# Altium schematic symbol library Kame_FMU.SCHLIB: 35 symbols
Pins are listed as number, name and electrical type; pins without a type are passive.

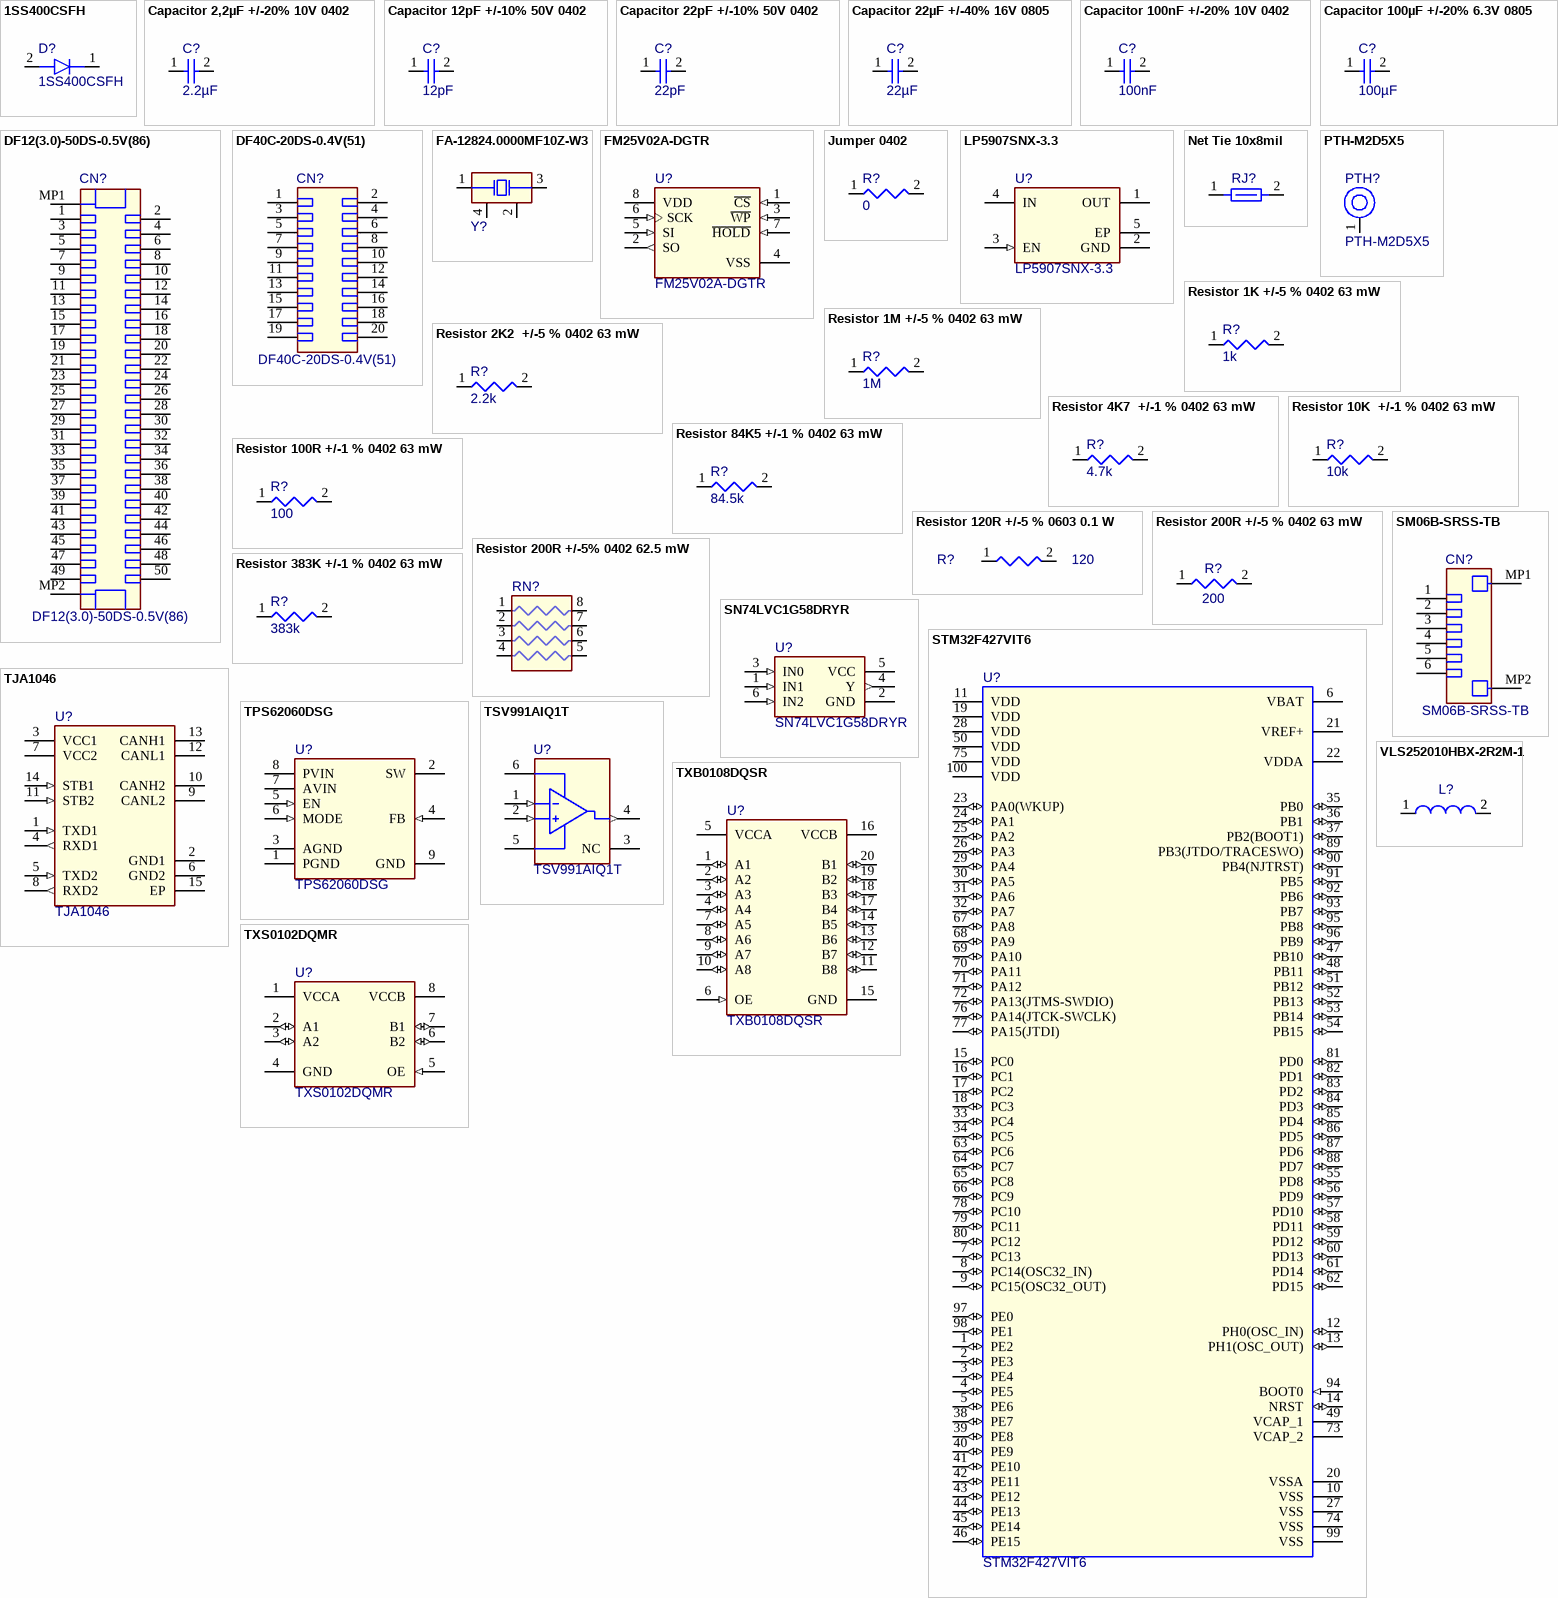
[diagram p0: symbols 1SS400CSFH to VLS252010HBX-2R2M-1]

## 1SS400CSFH
designator D?
Switching Diode (High Speed Switching), 80 V, 100 mA, 2-Pin SOD-923, RoHS, Tape and Reel; Manufacturer: Rohm; Manufacturer Part Number: 1SS400CSFHT2RA; Mounting Technology: SMT; Pins: 2; Component Type: Diodes
footprint ROHM-VMN2-2_V (VMN2, 2-Leads, Body 0.9x0.6mm, Pitch 0.95mm)
pins: 1 K, 2 A

## Capacitor 2,2µF +/-20% 10V 0402
designator C?  value 2.2µF  (hidden comment: Capacitor 2,2µF +/-20% 10V 0402)
Chip Capacitor, 2,2µF +/-20%, 10V, 0402, Thickness 0.6 mm; Manufacturer: Murata; Manufacturer Part Number: GRT155R61E225KE13D; Tolerance: 10%; Case/Package: 0603; Voltage Rating: 10V; Mounting Technology: SMT; Min Operating Temperature: -55°C; Max Operating Temperature: 85°C; Pins: 2; Component Type: Capacitors
footprint CAPC0402(1005)60_L (Chip Capacitor, Body 1.0x0.5mm, Height 0.6mm, IPC High Density)
pins: 1, 2

## Capacitor 12pF +/-10% 50V 0402
designator C?  value 12pF  (hidden comment: Capacitor 12pF +/-10% 50V 0402)
Chip Capacitor, 12pF +/-10%, 50V, 0402, Thickness 0.33 mm; Manufacturer: Murata; Manufacturer Part Number: GCM1555C1H120JA16D; Tolerance: 20%; Case/Package: 0603; Mounting Technology: SMT; Pins: 2; Voltage Rating: 50V; Max Operating Temperature: 85°C; Min Operating Temperature: -55°C; Component Type: Capacitors
footprint CAPC0402(1005)33_L (Chip Capacitor, Body 1.0x0.5mm, Height 0.33mm, IPC High Density)
pins: 1, 2

## Capacitor 22pF +/-10% 50V 0402
designator C?  value 22pF  (hidden comment: Capacitor 22pF +/-10% 50V 0402)
Chip Capacitor, 22pF +/-10%, 50V, 0402, Thickness 0.6 mm; Manufacturer: Kyocera AVX; Manufacturer Part Number: 04025A220JAT4A; Tolerance: 10%; Mounting Technology: SMT; Pins: 2; Voltage Rating: 50V; Case/Package: 0402; Max Operating Temperature: 85°C; Min Operating Temperature: -55°C; Component Type: Capacitors
footprint CAPC0402(1005)60_L (Chip Capacitor, Body 1.0x0.5mm, Height 0.6mm, IPC High Density)
pins: 1, 2

## Capacitor 22µF +/-40% 16V 0805
designator C?  value 22µF  (hidden comment: Capacitor 22µF +/-40% 16V 0805)
Chip Capacitor, 22µF +/-40%, 16V, 0805, Thickness 1.45 mm; Manufacturer: Murata; Manufacturer Part Number: GRM21BR61C226ME44L; Tolerance: 5%; Voltage Rating: 16V; Case/Package: 0402; Pins: 2; Mounting Technology: SMT; Max Operating Temperature: 85°C; Min Operating Temperature: -55°C; Component Type: Capacitors
footprint CAPC0805(2012)145_L (Chip Capacitor, Body 2.0x1.2mm, Height 1.45mm, IPC High Density)
pins: 1, 2

## Capacitor 100nF +/-20% 10V 0402
designator C?  value 100nF  (hidden comment: Capacitor 100nF +/-20% 10V 0402)
Chip Capacitor, 100nF +/-20%, 10V, 0402, Thickness 0.6 mm; Manufacturer: KEMET; Manufacturer Part Number: C0402C104K8RAC; Tolerance: 20%; Case/Package: 0402; Min Operating Temperature: -55°C; Mounting Technology: SMT; Max Operating Temperature: 85°C; Pins: 2; Voltage Rating: 10V; Component Type: Capacitors
footprint CAPC0402(1005)60_L (Chip Capacitor, Body 1.0x0.5mm, Height 0.6mm, IPC High Density)
pins: 1, 2

## Capacitor 100µF +/-20% 6.3V 0805
designator C?  value 100µF  (hidden comment: Capacitor 100µF +/-20% 6.3V 0805)
Chip Capacitor, 100µF +/-20%, 6.3V, 0805, Thickness 1.45 mm; Manufacturer: Murata; Manufacturer Part Number: GRM21BR60G107ME15L; Tolerance: 10%; Max Operating Temperature: 85°C; Mounting Technology: SMT; Case/Package: 0402; Voltage Rating: 6.3V; Min Operating Temperature: -55°C; Pins: 2; Component Type: Capacitors
footprint CAPC0805(2012)145_L (Chip Capacitor, Body 2.0x1.2mm, Height 1.45mm, IPC High Density)
pins: 1, 2

## DF12(3.0)-50DS-0.5V(86)
designator CN?
Receptacle Connector, 50 V, 0.3 A, -45 to 125 degC, RoHS, Tape and Reel; Manufacturer: Hirose; Pins: 52; System: Connector; Manufacturer Part Number: DF12(3.0)-50DS-0.5V(86); Component Type: Connectors
footprint HIRO-DF12(3.0)-50DS-0.5V_V (SMD, 50-Leads, Body 14.6x3.6mm, Pitch 0.5mm)
pins: 1, 2, 3, 4, 5, 6, 7, 8, 9, 10, 11, 12, 13, 14, 15, 16, 17, 18, 19, 20, 21, 22, 23, 24, 25, 26, 27, 28, 29, 30, 31, 32, 33, 34, 35, 36, 37, 38, 39, 40, 41, 42, 43, 44, 45, 46, 47, 48, 49, 50, MP1, MP2

## DF40C-20DS-0.4V(51)
designator CN?
Receptacle Connector, 30 V, 0.3 A, -35 to 85 degC, RoHS, Tape and Reel; Manufacturer: Hirose; Connector Type: Receptacle,CenterStripContacts; Pins: 20; System: Connector; Manufacturer Part Number: DF40C-20DS-0.4V(51); Component Type: Connectors
footprint HIRO-DF40C-20DS-0.4V(51)_V (CONN, 20-Lead, Body 6.6x2.88mm, Pitch 0.4mm)
pins: 1, 2, 3, 4, 5, 6, 7, 8, 9, 10, 11, 12, 13, 14, 15, 16, 17, 18, 19, 20

## FA-12824.0000MF10Z-W3
designator Y?  (value not drawn)
Crystal, 24 MHz, +/- 10 ppm, -20 to 75 degC, 4-Pin SMD, RoHS, Tape and Reel; Manufacturer: Epson; ESR: 80; Load Capacitance: 12pF; Frequency: 24MHz; Mounting Technology: SMT; Pins: 4; RoHS Compliant: Yes; Max Operating Temperature: 75°C; Case/Package: SMD/SMT; Min Operating Temperature: -20°C; Manufacturer Part Number: FA-12824.0000MF10Z-W3; Component Type: Crystals & Oscillators
footprint EPSON-FA-128_V (SMD, 4-Leads, Body 2x1.6mm, Pitch 1.45mm)
pins: 1 X1, 2 NC (power), 3 X2, 4 NC (power)

## FM25V02A-DGTR
designator U?
REEL / F-RAM Memory Serial; Manufacturer: Cypress; Memory Format: FRAM,RAM; Speed: 40MHz; Min Operating Temperature: -40°C; Pins: 8; Max Operating Temperature: 85°C; Case/Package: DFN; Manufacturer Part Number: FM25V02A-DG; Component Type: Memory
footprint SON95P400X75_HS-9N (SON, 8-Leads, Body 4,50x4,00mm, Pitch 0,95mm, Thermal Pad 2,61x2,88mm, IPC Medium Density)
pins: 1 ~{CS} (in) "Chip Select. This active LOW input activates the device. When HIGH, the device enters the  low-power standby mode, ignores other inputs, and the output is tristated. When LOW, the device  internally activates the SCK signal. A falling edge on C\S\ must occur before every opcode.", 2 SO (out) "Serial Output. This is the data output pin. It is driven during a read and remains tristated at all other  times including when H\O\L\D\ is LOW. Data transitions are driven on the falling edge of the serial clock.", 3 ~{WP} (in) "Write Protect. This active LOW pin prevents write operation to the Status Register when WPEN is  set to ‘1’. This is critical because other write protection features are controlled through the Status  Register.", 4 VSS (power) "Ground for the device. Must be connected to the ground of the system.", 5 SI (in) "Serial Input. All data is input to the device on this pin. The pin is sampled on the rising edge of SCK  and is ignored at other times. It should always be driven to a valid logic level to meet IDD specifications.", 6 SCK (in) "Serial Clock. All I/O activity is synchronized to the serial clock. Inputs are latched on the rising edge  and outputs occur on the falling edge. Because the device is synchronous, the clock frequency may  be any value between 0 and 40 MHz and may be interrupted at any time.", 7 ~{HOLD} (in) "The H\O\L\D\ pin is used when the host CPU must interrupt a memory operation for another  task. When H\O\L\D\ is LOW, the current operation is suspended. The device ignores any transition  on SCK or C\S\. All transitions on H\O\L\D\ must occur while SCK is LOW. This pin has a weak internal  pull-up", 8 VDD (power) "Power supply input to the device."

## Jumper 0402
designator R?  value 0  (hidden comment: Jumper 0402)
Manufacturer: Yageo; Manufacturer Part Number: RC0402JR-070RL; Case/Package: 0402; Max Operating Temperature: 155°C; Min Operating Temperature: -55°C; Pins: 2; Component Type: Resistors
footprint RESC0402(1005)_L (Chip Resistor, Body 1.0x0.5mm, IPC High Density)
pins: 1, 2
1 alternate drawing of the same symbol

## LP5907SNX-3.3
designator U?
Ultra-Low-Noise, Low-IQ LDO, 3.3 V, 0.25 A, -40 to 125 degC, 4-Pin X2SON, RoHS, Tape and Reel; Manufacturer: Texas Instruments; Manufacturer Part Number: LP5907SNX-3.3/NOPB; Output Voltage: 3.3V; Min Operating Temperature: -40°C; Pins: 5; Max Operating Temperature: 125°C; Component Type: Power Supply
footprint TI-DQN4-480X480TP_V (SON, 4-Leads, Body 1x1mm, Pitch 0.65mm, Thermal Pad 0.5x0.5mm)
pins: 1 OUT (power) "Output voltage. A 1-uF Low ESR capacitor should be connected to this pin. Connect this output to the load circuit. An internal 280 Ohm discharge resistor prevents a charge remaining on VOUT when VEN is low.", 2 GND (power) "Common ground", 3 EN (in) "Enable input", 4 IN (power) "Input voltage supply. A 1-µF capacitor should be connected at this input.", 5 EP (power) "Thermal pad for X2SON package, connect to GND or Floating"

## Net Tie 10x8mil
designator RJ?  (value not drawn)  (net tie, no BOM)
Pins: 2; Max Operating Temperature: 155°C; Min Operating Temperature: -55°C; Component Type: Resistors
footprint New footprint 1
pins: 1, 2

## PTH-M2D5X5
designator PTH?
M2 PTH (2.5mm), 5mm pad; Pins: 1; Component Type: Mechanical
footprint PTH-M2D5X5
pins: 1 H1

## Resistor 1K +/-5 % 0402 63 mW
designator R?  value 1k  (hidden comment: Resistor 1K +/-5 % 0402 63 mW)
Chip Resistor, 1 kOhms, +/-5 %, 63 mW, -55 to 155 degC, 0402; Manufacturer: Yageo; Manufacturer Part Number: RC0402JR-071KL; Tolerance: 5%; Power: 63mW; Case/Package: 0402; Max Operating Temperature: 155°C; Min Operating Temperature: -55°C; Pins: 2; Component Type: Resistors
footprint RESC0402(1005)_L (Chip Resistor, Body 1.0x0.5mm, IPC High Density)
pins: 1, 2
1 alternate drawing of the same symbol

## Resistor 1M +/-5 % 0402 63 mW
designator R?  value 1M  (hidden comment: Resistor 1M +/-5 % 0402 63 mW)
Chip Resistor, 1 MOhms, +/-5 %, 63 mW, -55 to 155 degC, 0402; Manufacturer: Yageo; Manufacturer Part Number: RC0402JR-071ML; Tolerance: 5%; Power: 63mW; Case/Package: 0402; Max Operating Temperature: 155°C; Min Operating Temperature: -55°C; Pins: 2; Component Type: Resistors
footprint RESC0402(1005)_L (Chip Resistor, Body 1.0x0.5mm, IPC High Density)
pins: 1, 2
1 alternate drawing of the same symbol

## Resistor 2K2  +/-5 % 0402 63 mW
designator R?  value 2.2k  (hidden comment: Resistor 2K2  +/-5 % 0402 63 mW)
Chip Resistor, 2,2 kOhms, +/-5 %, 63 mW, -55 to 155 degC, 0402; Manufacturer: Vishay Dale; Manufacturer Part Number: CRCW04022K20JNTE; Power: 63mW; Tolerance: 5%; Case/Package: 0402; Max Operating Temperature: 155°C; Min Operating Temperature: -55°C; Pins: 2; Component Type: Resistors
footprint RESC0402(1005)_L (Chip Resistor, Body 1.0x0.5mm, IPC High Density)
pins: 1, 2
1 alternate drawing of the same symbol

## Resistor 4K7  +/-1 % 0402 63 mW
designator R?  value 4.7k  (hidden comment: Resistor 4K7  +/-1 % 0402 63 mW)
Chip Resistor, 4,7 kOhms, +/-1 %, 63 mW, -55 to 155 degC, 0402; Manufacturer: Panasonic; Manufacturer Part Number: ERJ-2RKF4701X; Tolerance: 1%; Power: 63mW; Case/Package: 0402; Max Operating Temperature: 155°C; Min Operating Temperature: -55°C; Pins: 2; Component Type: Resistors
footprint RESC0402(1005)_L (Chip Resistor, Body 1.0x0.5mm, IPC High Density)
pins: 1, 2
1 alternate drawing of the same symbol

## Resistor 10K  +/-1 % 0402 63 mW
designator R?  value 10k  (hidden comment: Resistor 10K  +/-1 % 0402 63 mW)
Chip Resistor, 10 kOhms, +/-1 %, 63 mW, -55 to 125 degC, 0402; Manufacturer: Vishay Dale; Manufacturer Part Number: CRCW040210K0FKTD; Tolerance: 1%; Power: 63mW; Case/Package: 0402; Max Operating Temperature: 155°C; Min Operating Temperature: -55°C; Pins: 2; Component Type: Resistors
footprint RESC0402(1005)_L (Chip Resistor, Body 1.0x0.5mm, IPC High Density)
pins: 1, 2
1 alternate drawing of the same symbol

## Resistor 84K5 +/-1 % 0402 63 mW
designator R?  value 84.5k  (hidden comment: Resistor 84K5 +/-1 % 0402 63 mW)
Chip Resistor, 84,5 kOhms, +/-1 %, 63 mW, -55 to 155 degC, 0402; Manufacturer: Vishay Dale; Manufacturer Part Number: CRCW040284K5FKTD; Tolerance: 1%; Power: 63mW; Case/Package: 0402; Max Operating Temperature: 155°C; Min Operating Temperature: -55°C; Pins: 2; Component Type: Resistors
footprint RESC0402(1005)_L (Chip Resistor, Body 1.0x0.5mm, IPC High Density)
pins: 1, 2
1 alternate drawing of the same symbol

## Resistor 100R +/-1 % 0402 63 mW
designator R?  value 100  (hidden comment: Resistor 100R +/-1 % 0402 63 mW)
Chip Resistor, 100 Ohms, +/-1 %, 63 mW, -55 to 155 degC, 0402; Manufacturer: Vishay Dale; Manufacturer Part Number: CRCW0402100RFKED; Tolerance: 1%; Power: 63mW; Case/Package: 0402; Max Operating Temperature: 155°C; Min Operating Temperature: -55°C; Pins: 2; Component Type: Resistors
footprint RESC0402(1005)_L (Chip Resistor, Body 1.0x0.5mm, IPC High Density)
pins: 1, 2
1 alternate drawing of the same symbol

## Resistor 120R +/-5 % 0603 0.1 W
designator R?  value 120  (hidden comment: Resistor 120R +/-5 % 0603 0.1 W)
Chip Resistor, 120 Ohms, +/-5 %, 0.1 W, -55 to 155 degC, 0603; Manufacturer: Vishay Dale; Manufacturer Part Number: CRCW0603120RJNTA; Tolerance: 5%; Power: 100mW; Case/Package: 0603; Max Operating Temperature: 155°C; Min Operating Temperature: -55°C; Pins: 2; Component Type: Resistors
footprint RESC0603(1608)_L (Chip Resistor, Body 1.6x0.8mm, IPC High Density)
pins: 1, 2
1 alternate drawing of the same symbol

## Resistor 200R +/-5 % 0402 63 mW
designator R?  value 200  (hidden comment: Resistor 200R +/-5 % 0402 63 mW)
Chip Resistor, 200 Ohms, +/-5 %, 63 mW, -55 to 155 degC, 0402; Manufacturer: Yageo; Manufacturer Part Number: RC0402JR-07200RL; Power: 63mW; Tolerance: 5%; Case/Package: 0402; Max Operating Temperature: 155°C; Min Operating Temperature: -55°C; Pins: 2; Component Type: Resistors
footprint RESC0402(1005)_L (Chip Resistor, Body 1.0x0.5mm, IPC High Density)
pins: 1, 2
1 alternate drawing of the same symbol

## Resistor 200R +/-5% 0402 62.5 mW
designator RN?  (value not drawn)
Res Thick Film Array 200 Ohm 5% 200ppm/C ISOL Molded 8-Pin 0804(4 X 0402) Convex SMD Punched Carrier T/R; Manufacturer: Panasonic; Manufacturer Part Number: EXB-28V201JX; Value: 200; Power: 62.5mW; Case/Package: 0402; Min Operating Temperature: -55°C; Tolerance: 5%; Max Operating Temperature: 125°C; Pins: 8; Component Type: Resistors
footprint Panasonic_EXB28 (Resistor network, 0402x4, convex terminal)
pins: 1, 2 1, 3 1, 4 1, 5 2, 6 2, 7 2, 8 2

## Resistor 383K +/-1 % 0402 63 mW
designator R?  value 383k  (hidden comment: Resistor 383K +/-1 % 0402 63 mW)
Chip Resistor, 383 kOhms, +/-1 %, 63 mW, -55 to 155 degC, 0402; Manufacturer: Vishay; Manufacturer Part Number: CRCW0402383KFKED; Tolerance: 1%; Power: 63mW; Case/Package: 0402; Max Operating Temperature: 155°C; Min Operating Temperature: -55°C; Pins: 2; Component Type: Resistors
footprint RESC0402(1005)_L (Chip Resistor, Body 1.0x0.5mm, IPC High Density)
pins: 1, 2
1 alternate drawing of the same symbol

## SM06B-SRSS-TB
designator CN?
Male Header, Pitch 1 mm, 1 x 6 Position, Height 2.95 mm, -25 to 85 degC, RoHS, Tape and Reel; Manufacturer: JST; Manufacturer Part Number: SM06B-SRSS-TB(LF)(SN); Mounting Technology: SurfaceMount; Pins: 8; Case/Package: Male Header, Pitch 1 mm, 1 X 6 Position, Height 2.9 mm; Component Type: Connectors
footprint JST-SM06B-SRSS-TB_V (SMD, 6-Leads, Body 8x4.25mm, Pitch 1mm)
pins: 1, 2, 3, 4, 5, 6, MP1, MP2

## SN74LVC1G58DRYR
designator U?
CONFIGURABLE MULTIPLE-FUNCTION GATE, DRY0006A, LARGE T&R; Manufacturer: Texas Instruments; Pins: 6; Manufacturer Part Number: SN74LVC1G58DRYR; Component Type: Integrated Circuits
footprint DRY0006A_V (SON, 6-Leads, Body 1.45x1mm, Pitch 0.5mm)
pins: 1 IN1 (in), 2 GND (power), 3 IN0 (in), 4 Y (out), 5 VCC (power), 6 IN2 (in)

## STM32F427VIT6
designator U?
ARM Cortex-M4 32-bit MCU+FPU, 2048 KB Flash, 256 KB Internal RAM, 82 I/Os, 100-Pin LQFP, -40 to 85 degC, Tape and Reel; Min Supply Voltage: 1.7V; RAM Size: 256; ComponentLink2URL: http://www.st.com/st-web-ui/static/active/en/resource/technical/document/datasheet/DM00071990.pdf; ComponentLink2Description: Datasheet; ComponentLink1Description: Manufacturer URL; Pins: 100; Mounting Technology: Surface Mount; ComponentLink1URL: http://www.st.com/; Component Type: Processors
footprint STM-LQFP100
pins: 1 PE2 (io) "PE2/TRACECLK,SPI4_SCK,SAI1_MCLK_A,ETH_MII_TXD3,FMC_A23,EVENTOUT", 2 PE3 (io) "PE3/TRACED0,SAI1_SD_B,FMC_A19,EVENTOUT", 3 PE4 (io) "PE4/TRACED1,SPI4_NSS,SAI1_FS_A,FMC_A20,DCMI_D4,LCD_B0,EVENTOUT", 4 PE5 (io) "PE5/TRACED2,TIM9_CH1,SPI4_MISO,SAI1_SCK_A,FMC_A21,DCMI_D6,LCD_G0,EVENTOUT", 5 PE6 (io) "PE6/TRACED3,TIM9_CH2,SPI4_MOSI,SAI1_SD_A,FMC_A22,DCMI_D7,LCD_G1,EVENTOUT", 6 VBAT (power), 7 PC13 (io) "PC13/EVENTOUT/TAMP_1", 8 PC14(OSC32_IN) (io) "PC14-OSC32_IN(PC14)/EVENTOUT/OSC32_IN", 9 PC15(OSC32_OUT) (io) "PC15-OSC32_OUT(PC15)/EVENTOUT/OSC32_OUT", 10 VSS (power), 11 VDD (power), 12 PH0(OSC_IN) (io) "PH0-OSC_IN(PH0)/EVENTOUT/OSC_IN", 13 PH1(OSC_OUT) (io) "PH1-OSC_OUT(PH1)/EVENTOUT/OSC_OUT", 14 NRST (io), 15 PC0 (io) "PC0/OTG_HS_ULPI_STP,FMC_SDNWE,EVENTOUT/ADC123_IN10", 16 PC1 (io) "PC1/ETH_MDC,EVENTOUT/ADC123_IN11", 17 PC2 (io) "PC2/SPI2_MISO,I2S2EXT_SD,OTG_HS_ULPI_DIR,ETH_MII_TXD2,FMC_SDNE0,EVENTOUT/ADC123_IN12", 18 PC3 (io) "PC3/SPI2_MOSI/I2S2_SD,OTG_HS_ULPI_NXT,ETH_MII_TX_CLK,FMC_SDCKE0,EVENTOUT/ADC123_IN13", 19 VDD (power), 20 VSSA (power), 21 VREF+ (power), 22 VDDA (power), 23 PA0(WKUP) (io) "PA0-WKUP(PA0)/TIM2_CH1/TIM2_ETR,TIM5_CH1,TIM8_ETR,USART2_CTS,UART4_TX,ETH_MII_CRS,EVENTOUT/ADC123_IN0/WKUP", 24 PA1 (io) "PA1/TIM2_CH2,TIM5_CH2,USART2_RTS,UART4_RX,ETH_MII_RX_CLK/ETH_RMII_REF_CLK,EVENTOUT/ADC123_IN1", 25 PA2 (io) "PA2/TIM2_CH3,TIM5_CH3,TIM9_CH1,USART2_TX,ETH_MDIO,EVENTOUT/ADC123_IN2", 26 PA3 (io) "PA3/TIM2_CH4,TIM5_CH4,TIM9_CH2,USART2_RX,OTG_HS_ULPI_D0,ETH_MII_COL,LCD_B5,EVENTOUT/ADC123_IN3", 27 VSS (power), 28 VDD (power), 29 PA4 (io) "PA4/SPI1_NSS,SPI3_NSS/I2S3_WS,USART2_CK,OTG_HS_SOF,DCMI_HSYNC,LCD_VSYNC,EVENTOUT/ADC12_IN4/DAC_OUT1", 30 PA5 (io) "PA5/TIM2_CH1/TIM2_ETR,TIM8_CH1N,SPI1_SCK,OTG_HS_ULPI_CK,EVENTOUT/ADC12_IN5/DAC_OUT2", 31 PA6 (io) "PA6/TIM1_BKIN,TIM3_CH1,TIM8_BKIN,SPI1_MISO,TIM13_CH1,DCMI_PIXCLK,LCD_G2,EVENTOUT/ADC12_IN6", 32 PA7 (io) "PA7/TIM1_CH1N,TIM3_CH2,TIM8_CH1N,SPI1_MOSI,TIM14_CH1,ETH_MII_RX_DV/ETH_RMII_CRS_DV,EVENTOUT/ADC12_IN7", 33 PC4 (io) "PC4/ETH_MII_RXD0/ETH_RMII_RXD0,EVENTOUT/ADC12_IN14", 34 PC5 (io) "PC5/ETH_MII_RXD1/ETH_RMII_RXD1,EVENTOUT/ADC12_IN15", 35 PB0 (io) "PB0/TIM1_CH2N,TIM3_CH3,TIM8_CH2N,LCD_R3,OTG_HS_ULPI_D1,ETH_MII_RXD2,EVENTOUT/ADC12_IN8", 36 PB1 (io) "PB1/TIM1_CH3N,TIM3_CH4,TIM8_CH3N,LCD_R6,OTG_HS_ULPI_D2,ETH_MII_RXD3,EVENTOUT/ADC12_IN9", 37 PB2(BOOT1) (io) "PB2-BOOT1(PB2)/EVENTOUT", 38 PE7 (io) "PE7/TIM1_ETR,UART7_RX,FMC_D4,EVENTOUT", 39 PE8 (io) "PE8/TIM1_CH1N,UART7_TX,FMC_D5,EVENTOUT", 40 PE9 (io) "PE9/TIM1_CH1,FMC_D6,EVENTOUT", 41 PE10 (io) "PE10/TIM1_CH2N,FMC_D7,EVENTOUT", 42 PE11 (io) "PE11/TIM1_CH2,SPI4_NSS,FMC_D8,LCD_G3,EVENTOUT", 43 PE12 (io) "PE12/TIM1_CH3N,SPI4_SCK,FMC_D9,LCD_B4,EVENTOUT", 44 PE13 (io) "PE13/TIM1_CH3,SPI4_MISO,FMC_D10,LCD_DE,EVENTOUT", 45 PE14 (io) "PE14/TIM1_CH4,SPI4_MOSI,FMC_D11,LCD_CLK,EVENTOUT", 46 PE15 (io) "PE15/TIM1_BKIN,FMC_D12,LCD_R7,EVENTOUT", 47 PB10 (io) "PB10/TIM2_CH3,I2C2_SCL,SPI2_SCK/I2S2_CK,USART3_TX,OTG_HS_ULPI_D3,ETH_MII_RX_ER,LCD_G4,EVENTOUT", 48 PB11 (io) "PB11/TIM2_CH4,I2C2_SDA,USART3_RX,OTG_HS_ULPI_D4,ETH_MII_TX_EN/ETH_RMII_TX_EN,LCD_G5,EVENTOUT", 49 VCAP_1, 50 VDD (power), 51 PB12 (io) "PB12/TIM1_BKIN,I2C2_SMBA,SPI2_NSS/I2S2_WS,USART3_CK,CAN2_RX,OTG_HS_ULPI_D5,ETH_MII_TXD0/ETH_RMII_TXD0,OTG_HS_ID,EVENTOUT", 52 PB13 (io) "PB13/TIM1_CH1N,SPI2_SCK/I2S2_CK,USART3_CTS,CAN2_TX,OTG_HS_ULPI_D6,ETH_MII_TXD1/ETH_RMII_TXD1,EVENTOUT/OTG_HS_VBUS", 53 PB14 (io) "PB14/TIM1_CH2N,TIM8_CH2N,SPI2_MISO,I2S2EXT_SD,USART3_RTS,TIM12_CH1,OTG_HS_DM,EVENTOUT", 54 PB15 (io) "PB15/RTC_REFIN,TIM1_CH3N,TIM8_CH3N,SPI2_MOSI/I2S2_SD,TIM12_CH2,OTG_HS_DP,EVENTOUT", 55 PD8 (io) "PD8/USART3_TX,FMC_D13,EVENTOUT", 56 PD9 (io) "PD9/USART3_RX,FMC_D14,EVENTOUT", 57 PD10 (io) "PD10/USART3_CK,FMC_D15,LCD_B3,EVENTOUT", 58 PD11 (io) "PD11/USART3_CTS,FMC_A16,EVENTOUT", 59 PD12 (io) "PD12/TIM4_CH1,USART3_RTS,FMC_A17,EVENTOUT", 60 PD13 (io) "PD13/TIM4_CH2,FMC_A18,EVENTOUT", 61 PD14 (io) "PD14/TIM4_CH3,FMC_D0,EVENTOUT", 62 PD15 (io) "PD15/TIM4_CH4,FMC_D1,EVENTOUT", 63 PC6 (io) "PC6/TIM3_CH1,TIM8_CH1,I2S2_MCK,USART6_TX,SDIO_D6,DCMI_D0,LCD_HSYNC,EVENTOUT", 64 PC7 (io) "PC7/TIM3_CH2,TIM8_CH2,I2S3_MCK,USART6_RX,SDIO_D7,DCMI_D1,LCD_G6,EVENTOUT", 65 PC8 (io) "PC8/TIM3_CH3,TIM8_CH3,USART6_CK,SDIO_D0,DCMI_D2,EVENTOUT", 66 PC9 (io) "PC9/MCO2,TIM3_CH4,TIM8_CH4,I2C3_SDA,I2S_CKIN,SDIO_D1,DCMI_D3,EVENTOUT", 67 PA8 (io) "PA8/MCO1,TIM1_CH1,I2C3_SCL,USART1_CK,OTG_FS_SOF,LCD_R6,EVENTOUT", 68 PA9 (io) "PA9/TIM1_CH2,I2C3_SMBA,USART1_TX,DCMI_D0,EVENTOUT/OTG_FS_VBUS", 69 PA10 (io) "PA10/TIM1_CH3,USART1_RX,OTG_FS_ID,DCMI_D1,EVENTOUT", 70 PA11 (io) "PA11/TIM1_CH4,USART1_CTS,CAN1_RX,LCD_R4,OTG_FS_DM,EVENTOUT", 71 PA12 (io) "PA12/TIM1_ETR,USART1_RTS,CAN1_TX,LCD_R5,OTG_FS_DP,EVENTOUT", 72 PA13(JTMS-SWDIO) (io) "PA13(JTMS-SWDIO)/JTMS-SWDIO,EVENTOUT", 73 VCAP_2, 74 VSS (power), 75 VDD (power), 76 PA14(JTCK-SWCLK) (io) "PA14(JTCK-SWCLK)/JTCK-SWCLK/EVENTOUT", 77 PA15(JTDI) (io) "PA15(JTDI)/JTDI,TIM2_CH1/TIM2_ETR,SPI1_NSS,SPI3_NSS/I2S3_WS,EVENTOUT", 78 PC10 (io) "PC10/SPI3_SCK/I2S3_CK,USART3_TX,UART4_TX,SDIO_D2,DCMI_D8,LCD_R2,EVENTOUT", 79 PC11 (io) "PC11/I2S3EXT_SD,SPI3_MISO,USART3_RX,UART4_RX,SDIO_D3,DCMI_D4,EVENTOUT", 80 PC12 (io) "PC12/SPI3_MOSI/I2S3_SD,USART3_CK,UART5_TX,SDIO_CK,DCMI_D9,EVENTOUT", 81 PD0 (io) "PD0/CAN1_RX,FMC_D2,EVENTOUT", 82 PD1 (io) "PD1/CAN1_TX,FMC_D3,EVENTOUT", 83 PD2 (io) "PD2/TIM3_ETR,UART5_RX,SDIO_CMD,DCMI_D11,EVENTOUT", 84 PD3 (io) "PD3/SPI2_SCK/I2S2_CK,USART2_CTS,FMC_CLK,DCMI_D5,LCD_G7,EVENTOUT", 85 PD4 (io) "PD4/USART2_RTS,FMC_NOE,EVENTOUT", 86 PD5 (io) "PD5/USART2_TX,FMC_NWE,EVENTOUT", 87 PD6 (io) "PD6/SPI3_MOSI/I2S3_SD,SAI1_SD_A,USART2_RX,FMC_NWAIT,DCMI_D10,LCD_B2,EVENTOUT", 88 PD7 (io) "PD7/USART2_CK,FMC_NE1/FMC_NCE2,EVENTOUT", 89 PB3(JTDO/TRACESWO) (io) "PB3(JTDO/TRACESWO)/JTDO/TRACESWO,TIM2_CH2,SPI1_SCK,SPI3_SCK/I2S3_CK,EVENTOUT", 90 PB4(NJTRST) (io) "PB4(NJTRST)/NJTRST,TIM3_CH1,SPI1_MISO,SPI3_MISO,I2S3EXT_SD,EVENTOUT", 91 PB5 (io) "PB5/TIM3_CH2,I2C1_SMBA,SPI1_MOSI,SPI3_MOSI/I2S3_SD,CAN2_RX,OTG_HS_ULPI_D7,ETH_PPS_OUT,FMC_SDCKE1,DCMI_D10,EVENTOUT", 92 PB6 (io) "PB6/TIM4_CH1,I2C1_SCL,USART1_TX,CAN2_TX,FMC_SDNE1,DCMI_D5,EVENTOUT", 93 PB7 (io) "PB7/TIM4_CH2,I2C1_SDA,USART1_RX,FMC_NL,DCMI_VSYNC,EVENTOUT", 94 BOOT0 (in) "BOOT0/VPP", 95 PB8 (io) "PB8/TIM4_CH3,TIM10_CH1,I2C1_SCL,CAN1_RX,ETH_MII_TXD3,SDIO_D4,DCMI_D6,LCD_B6,EVENTOUT", 96 PB9 (io) "PB9/TIM4_CH4,TIM11_CH1,I2C1_SDA,SPI2_NSS/I2S2_WS,CAN1_TX,SDIO_D5,DCMI_D7,LCD_B7,EVENTOUT", 97 PE0 (io) "PE0/TIM4_ETR,UART8_RX,FMC_NBL0,DCMI_D2,EVENTOUT", 98 PE1 (io) "PE1/UART8_TX,FMC_NBL1,DCMI_D3,EVENTOUT", 99 VSS (power), 100 VDD (power)

## TJA1046
designator U?
Dual High-speed CAN Transceiver with Standby Mode, 4.75 to 5.25 V, 14-Pin HVSON, RoHS, Tape and Reel; Manufacturer: NXP Semiconductors; Manufacturer Part Number: TJA1046TKZ; Pins: 15; Component Type: Interface
footprint NXP-SOT1086-2_L (SON, 14-Leads, Body 4.6x3.1mm, Pitch 0.65mm, Thermal Pad 4.2x1.59mm, IPC High Density)
pins: 1 TXD1 (in) "transmit data input 1", 2 GND1 (power) "transceiver ground 1", 3 VCC1 (power) "transceiver supply voltage 1", 4 RXD1 (out) "receive data output 1; reads out data from the bus lines 1", 5 TXD2 (in) "transmit data input 2", 6 GND2 (power) "transceiver ground 2", 7 VCC2 (power) "transceiver supply voltage 2", 8 RXD2 (out) "receive data output 2; reads out data from the bus lines 2", 9 CANL2 "LOW-level CAN-bus line 2", 10 CANH2 "HIGH-level CAN-bus line 2", 11 STB2 (in) "Standby mode control input 2", 12 CANL1 "LOW-level CAN-bus line 1", 13 CANH1 "HIGH-level CAN-bus line 1", 14 STB1 (in) "Standby mode control input 1", 15 EP (power)

## TPS62060DSG
designator U?
Step Down Converter, 3 MHz, 1.6 A, -45 to 85 degC, 8-Pin WSON, RoHS, Tape and Reel; Manufacturer: Texas Instruments; Manufacturer Part Number: TPS62060DSGR; Pins: 9; Component Type: Power Supply
footprint DSG0008A_V (SON, 8-Leads, Body 2x2mm, Pitch 0.5mm, Thermal Pad 1.6x0.9mm, TI Recommended)
pins: 1 PGND (power) "GND supply pin for the output stage.", 2 SW (power) "This is the switch pin and is connected to the internal MOSFET switches. Connect the external inductor between this terminal and the output capacitor.", 3 AGND (power) "Analog GND supply pin for the control circuit.", 4 FB (in) "Feedback pin for the internal regulation loop. Connect the external resistor divider to this pin. In case of fixed output voltage option, connect this pin directly to the output capacitor", 5 EN (in) "This is the enable pin of the device. Pulling this pin to low forces the device into shutdown mode. Pulling this pin to high enables the device. This pin must be terminated", 6 MODE (in) "MODE: MODE pin = high forces the device to operate in fixed frequency PWM mode. MODE pin = low enables the Power Save Mode with automatic transition from PFM mode to fixed frequency PWM mode.", 7 AVIN (power) "Analog VIN power supply for the control circuit. Need to be connected to PVIN and input capacitor.", 8 PVIN (power) "VIN power supply pin for the output stage.", 9 GND (power) "For good thermal performance, this PAD must be soldered to the land pattern on the pcb. This PAD should be used as device GND."

## TSV991AIQ1T
designator U?
Rail-to-rail Input / Output GBP Operational Amplifier, 20 MHz, -40 to 125 degC, 6-Pin DFN, RoHS, Tape and Reel; Manufacturer: STMicroelectronics; Channels: 2; Min Operating Temperature: -40°C; Max Operating Temperature: 125°C; Pins: 6; Manufacturer Part Number: TSV991AIQ1T; Component Type: Amplifiers
footprint STM-DFN-8_V (DFN, 8-Leads, Body 2x2mm, Pitch 0.5mm)
pins: 1 IN- (in), 2 IN+ (in), 3 NC, 4 OUT (out), 5 VCC- (power), 6 VCC+ (power)

## TXB0108DQSR
designator U?
Bidirectional Voltage-Level Translator with Auto-Direction Sensing and +/-15 KV ESD Protection, 8 Bit, -40 to 85 degC, 20-Pin USON (DQS), Green (RoHS & no Sb/Br), Tape and Reel; Manufacturer: Texas Instruments; Pins: 20; Manufacturer Part Number: TXB0108DQSR; Component Type: Interface
footprint DQS0020A_V (SON, 20-Leads, Body 4x2mm, Pitch 0.4mm)
pins: 1 A1 (io), 2 A2 (io), 3 A3 (io), 4 A4 (io), 5 VCCA (power), 6 OE (in), 7 A5 (io), 8 A6 (io), 9 A7 (io), 10 A8 (io), 11 B8 (io), 12 B7 (io), 13 B6 (io), 14 B5 (io), 15 GND (power), 16 VCCB (power), 17 B4 (io), 18 B3 (io), 19 B2 (io), 20 B1 (io)

## TXS0102DQMR
designator U?
IC TRANSLATOR VOLTAGE 8-X2SON; Manufacturer: Texas Instruments; Max Supply Voltage: 5.5V; Min Supply Voltage: 1.65V; Max Operating Temperature: 85°C; Min Operating Temperature: -40°C; Pins: 8; Manufacturer Part Number: TXS0102DQMR; Component Type: Interface
footprint DQM (R-PX2SON-N8)
pins: 1 VCCA (power), 2 A1 (io), 3 A2 (io), 4 GND (power), 5 OE (in), 6 B2 (io), 7 B1 (io), 8 VCCB (power)

## VLS252010HBX-2R2M-1
designator L?  (value not drawn)
Inductor for Power Circuit, 2.2 uH, +/- 20%, -40 to 105 degC, 2-Pin SMD, RoHS, Tape and Reel; Manufacturer: TDK; Tolerance: 20%; Mounting Technology: SurfaceMount; Pins: 2; Manufacturer Part Number: VLS252010HBX-2R2M-1; Component Type: Inductors
footprint TDK-VLS252010_V (SMD, 2-Leads, Body 2.5x2mm)
pins: 1, 1, 2, 2